# Altium schematic symbol library Test Points.SchLib: 1 symbol
Pins are listed as number, name and electrical type; pins without a type are passive.

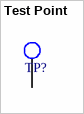
[diagram p0: symbol Test Point]

## Test Point
designator TP?  (value not drawn)
footprint Test Point pad
footprint Test Point Through-hole
pins: 1